# EAGLE library part PINHEAD-2X10 (library BaseApp)
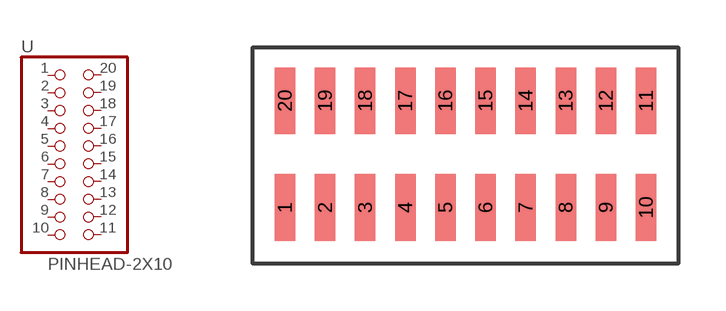
[diagram p121: symbol with the pads of PINHEAD-2X10-1.27MM; footprint PINHEAD-2X10-1.27MM]

Designator prefix -

## PINHEAD-2X10  [PINHEAD-2X10-1.27MM]
1  1  pas
2  2  pas
3  3  pas
4  4  pas
5  5  pas
6  6  pas
7  7  pas
8  8  pas
9  9  pas
10  10  pas
11  11  pas
12  12  pas
13  13  pas
14  14  pas
15  15  pas
16  16  pas
17  17  pas
18  18  pas
19  19  pas
20  20  pas

## Footprint PINHEAD-2X10-1.27MM (pad centres in mm)
smd 0.65 x 2.115: 1 -5.715,-1.692; 2 -4.445,-1.692; 3 -3.175,-1.692; 4 -1.905,-1.692; 5 -0.635,-1.692; 6 0.635,-1.692; 7 1.905,-1.692; 8 3.175,-1.692; 9 4.445,-1.692; 10 5.715,-1.692; 11 5.715,1.692; 12 4.445,1.692; 13 3.175,1.692; 14 1.905,1.692; 15 0.635,1.692; 16 -0.635,1.692; 17 -1.905,1.692; 18 -3.175,1.692; 19 -4.445,1.692; 20 -5.715,1.692